# Altium schematic symbol library FYP_Drone.SchLib: 15 symbols
Pins are listed as number, name and electrical type; pins without a type are passive.

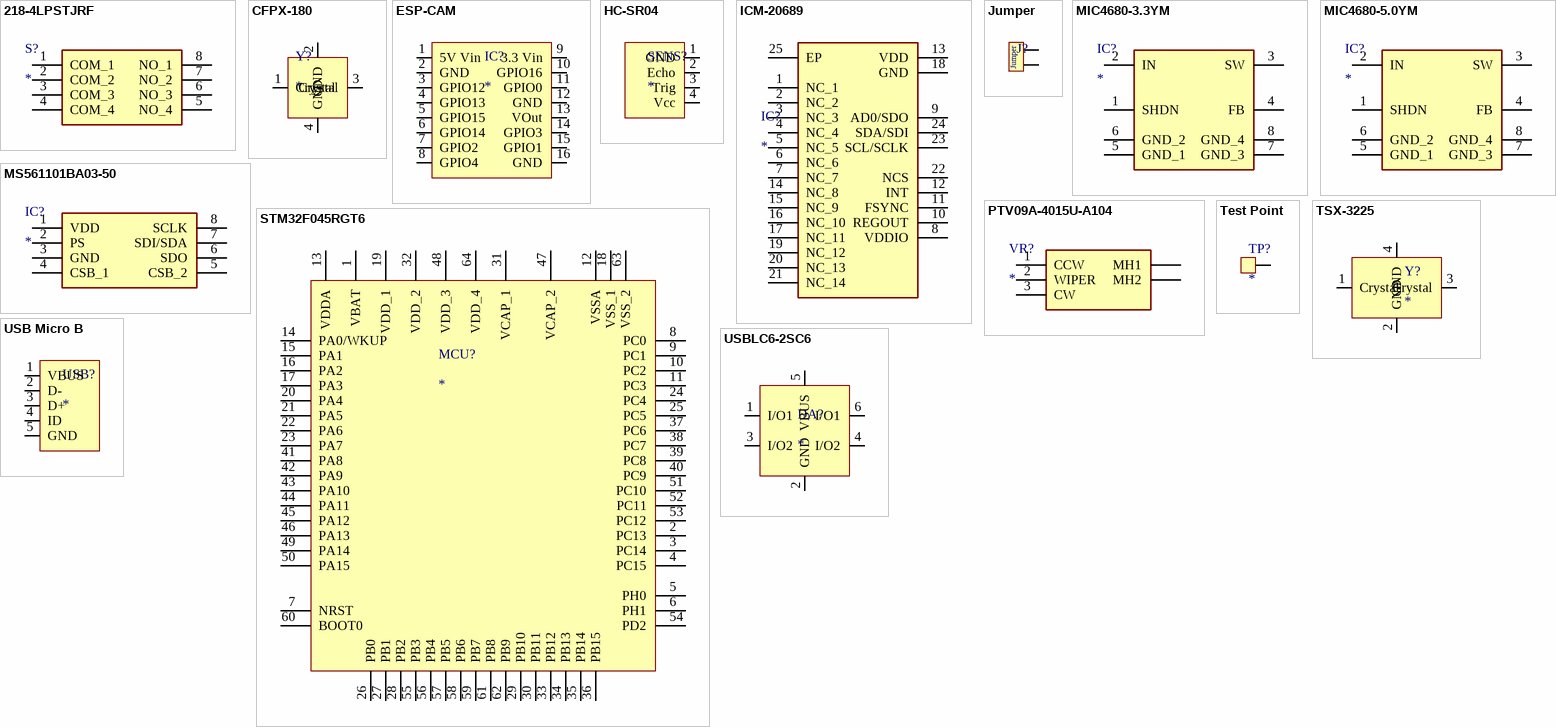
[diagram p0: symbols 218-4LPSTJRF to USBLC6-2SC6]

## 218-4LPSTJRF
designator S?
/ DIP Switches/SIP Switches SURFACE MOUNT, GOLD, HALF-PITCH DIP SWITCH, 4-POLE, LOW PROFILE ACTUATOR, BOTTOM SEAL, TAPE SEAL, J-BEND, REEL, OFF; Manufacturer_Name: CTS; Manufacturer_Part_Number: 218-4LPSTJRF; Description: SWITCH SLIDE DIP SPST 25MA 24V; Datasheet Link: https://www.ctscorp.com/wp-content/uploads/218.pdf; Height: 2.7mm
footprint 2184LPSTJRF
pins: 1 COM_1, 2 COM_2, 3 COM_3, 4 COM_4, 5 NO_4, 6 NO_3, 7 NO_2, 8 NO_1

## CFPX-180
designator Y?
IQD 16MHz Crystal ±20ppm SMD 4-Pin 3.2 x 2.5 x 0.8mm; ComponentLink1Description: Purchase; ComponentLink1URL: https://uk.rs-online.com/web/p/crystal-units/7961479/
footprint CFPX-180 (Crystal - 4-Pin 3.2 x 2.5 x 0.8mm)
pins: 1 Crystal, 2 GND, 3 Crystal, 4 GND

## ESP-CAM
designator IC?
pins: 1 5V Vin, 2 GND, 3 GPIO12, 4 GPIO13, 5 GPIO15, 6 GPIO14, 7 GPIO2, 8 GPIO4, 9 3.3 Vin, 10 GPIO16, 11 GPIO0, 12 GND, 13 VOut, 14 GPIO3 "U0RXD", 15 GPIO1 "U0TXD", 16 GND

## HC-SR04
designator SENS?
Ultrasonic distance sensor
pins: 1 GND, 2 Echo, 3 Trig, 4 Vcc

## ICM-20689
designator IC?
Integrated Circuit; Manufacturer_Name: TDK; Manufacturer_Part_Number: ICM-20689; Datasheet Link: https://componentsearchengine.com//ICM-20689.pdf; Height: 0.95mm; Mouser2 Part Number: 410-ICM-20689; Mouser2 Price/Stock: https://www.mouser.com/Search/Refine.aspx?Keyword=410-ICM-20689
footprint QFN50P400X400X95-25N-D
pins: 1 NC_1, 2 NC_2, 3 NC_3, 4 NC_4, 5 NC_5, 6 NC_6, 7 NC_7, 8 VDDIO, 9 AD0/SDO, 10 REGOUT, 11 FSYNC, 12 INT, 13 VDD, 14 NC_8, 15 NC_9, 16 NC_10, 17 NC_11, 18 GND, 19 NC_12, 20 NC_13, 21 NC_14, 22 NCS, 23 SCL/SCLK, 24 SDA/SDI, 25 EP

## Jumper
designator J?  (value not drawn)
Purchase: https://www.mouser.co.uk/ProductDetail/Molex/22-28-5027?qs=l%252BWx29wYPrz7EnZr1XjkzQ%3D%3D
footprint 2.54mm 2 pin Jumper (Headers & Wire Housings KK 100 Hdr Assy Bkwy Bkwy 02 Ckt 30 SGold)
pins: 1, 2

## MIC4680-3.3YM
designator IC?
Integrated Circuit; Manufacturer_Name: Microchip; Manufacturer_Part_Number: MIC4680-3.3YM; Datasheet Link: http://ww1.microchip.com/downloads/en/DeviceDoc/mic4680.pdf; Height: 1.73mm
footprint SOIC127P599X173-8N (MIC4680 buck converter)
pins: 1 SHDN, 2 IN, 3 SW, 4 FB, 5 GND_1, 6 GND_2, 7 GND_3, 8 GND_4

## MIC4680-5.0YM
designator IC?
Switching Voltage Regulators 1.3A SuperSwitcher (5v); Manufacturer_Name: Microchip; Manufacturer_Part_Number: MIC4680-3.3YM; Datasheet Link: http://ww1.microchip.com/downloads/en/DeviceDoc/mic4680.pdf; Height: 1.73mm
footprint SOIC127P599X173-8N (MIC4680 buck converter)
pins: 1 SHDN, 2 IN, 3 SW, 4 FB, 5 GND_1, 6 GND_2, 7 GND_3, 8 GND_4

## MS561101BA03-50
designator IC?
Integrated Circuit Note, Mouser Chepaer; Manufacturer_Name: TE Connectivity; Manufacturer_Part_Number: MS561101BA03-50; Datasheet Link: https://componentsearchengine.com//MS561101BA03-50.pdf; Mouser2 Part Number: 824-MS561101BA03-50; Mouser2 Price/Stock: https://www.mouser.com/Search/Refine.aspx?Keyword=824-MS561101BA03-50; ComponentLink1Description: Purchase; ComponentLink1URL: https://uk.rs-online.com/web/p/pressure-sensor-ics/8937130/
footprint MS561101BA03-50
pins: 1 VDD, 2 PS, 3 GND, 4 CSB_1, 5 CSB_2, 6 SDO, 7 SDI/SDA, 8 SCLK

## PTV09A-4015U-A104
designator VR?
Variable Resistor; Manufacturer_Name: Bourns; Manufacturer_Part_Number: PTV09A-4015U-A104; Description: Potentiometers PANEL CONTROL - 9MM-ST-CA; Datasheet Link: https://www.bourns.com/docs/Product-Datasheets/PTV09.pdf; Height: 15.5mm
footprint PTV09A4015UA104
pins: 1 CCW, 2 WIPER, 3 CW, MH1, MH2

## STM32F045RGT6
designator MCU?
footprint QFP50P1200X1200X160-64N
pins: 1 VBAT (power), 2 PC13, 3 PC14, 4 PC15, 5 PH0, 6 PH1, 7 NRST, 8 PC0 "1", 9 PC1 "1", 10 PC2, 11 PC3, 12 VSSA (power), 13 VDDA (power), 14 PA0/WKUP, 15 PA1, 16 PA2, 17 PA3, 18 VSS_1 (power), 19 VDD_1 (power), 20 PA4, 21 PA5, 22 PA6, 23 PA7, 24 PC4, 25 PC5, 26 PB0 "1", 27 PB1 "1", 28 PB2, 29 PB10, 30 PB11, 31 VCAP_1, 32 VDD_2 (power), 33 PB12, 34 PB13, 35 PB14, 36 PB15, 37 PC6, 38 PC7, 39 PC8, 40 PC9, 41 PA8, 42 PA9, 43 PA10, 44 PA11, 45 PA12, 46 PA13, 47 VCAP_2, 48 VDD_3 (power), 49 PA14, 50 PA15, 51 PC10, 52 PC11, 53 PC12, 54 PD2, 55 PB3, 56 PB4, 57 PB5, 58 PB6, 59 PB7, 60 BOOT0, 61 PB8, 62 PB9, 63 VSS_2 (power), 64 VDD_4 (power)

## Test Point
designator TP?
ComponentLink1Description: Purchase; ComponentLink1URL: https://uk.rs-online.com/web/p/terminal-posts/2622179/?relevancy-data=7365617263685F636173636164655F6F726465723D31267365617263685F696E746572666163655F6E616D653D4931384E525353746F636B4E756D626572267365617263685F6C616E67756167655F757365643D656E267365617263685F6D617463685F6D6F64653D6D61746368616C6C267365617263685F7061747465726E5F6D6174636865643D5E2828282872737C5253295B205D3F293F285C647B337D5B5C2D5C735D3F5C647B332C347D5B705061415D3F29297C283235285C647B387D7C5C647B317D5C2D5C647B377D29292924267365617263685F7061747465726E5F6F726465723D31267365617263685F73745F6E6F726D616C697365643D59267365617263685F726573706F6E73655F616374696F6E3D267365617263685F747970653D52535F53544F434B5F4E554D424552267365617263685F77696C645F63617264696E675F6D6F64653D4E4F4E45267365617263685F6B6579776F72643D3236322D32313739267365617263685F6B6579776F72645F6170703D32363232313739267365617263685F636F6E6669673D3026&searchHistory=%7B%22enabled%22%3Atrue%7D\
footprint Test Point THT 1mm
pins: 1

## TSX-3225
designator Y?
EPSON 16MHz Crystal Unit ±10ppm TSX-3225 4-Pin
footprint TSX-3225 (EPSON 16MHz Crystal Unit ±10ppm TSX-3225 4-Pin 3.2 x 2.5 x 0.6mm)
pins: 1 Crystal, 2 GND, 3 Crystal, 4 GND

## USB Micro B
designator USB?
Molex USB Connector, SMT, Socket 2.0 B, Solder, Right Angle; MFr No: 47642-0001; ComponentLink1Description: Purchase; ComponentLink1URL: https://uk.rs-online.com/web/p/usb-connectors/8967419/
footprint 47642-0001 (Molex USB Connector, Through Hole, Socket B, Solder, Right Angle)
pins: 1 VBUS, 2 D-, 3 D+, 4 ID, 5 GND

## USBLC6-2SC6
designator DA?
TMicroelectronics USBLC6-2SC6, Dual-Element Uni-Directional TVS Diode Array, 6-Pin SOT-23; ComponentLink1Description: Purchase; ComponentLink1URL: https://uk.rs-online.com/web/p/tvs-diodes/6247693/
footprint SOT95P280X145-6N
pins: 1 I/O1, 2 GND, 3 I/O2, 4 I/O2, 5 VBUS, 6 I/O1